# Altium footprint library Adafruit PyGamer.PCBLIB: 205 footprints (part 13 of 13)
Each footprint in its own frame and in the unit in brackets; x right, y up, seen from the top. Pads: shape width x height; smd on the part's side, far side on the other; paste and mask are expansions set on the pad; w line width, h text height; cw(c..) or ccw(c..) is an arc to the next point about the centre after c.
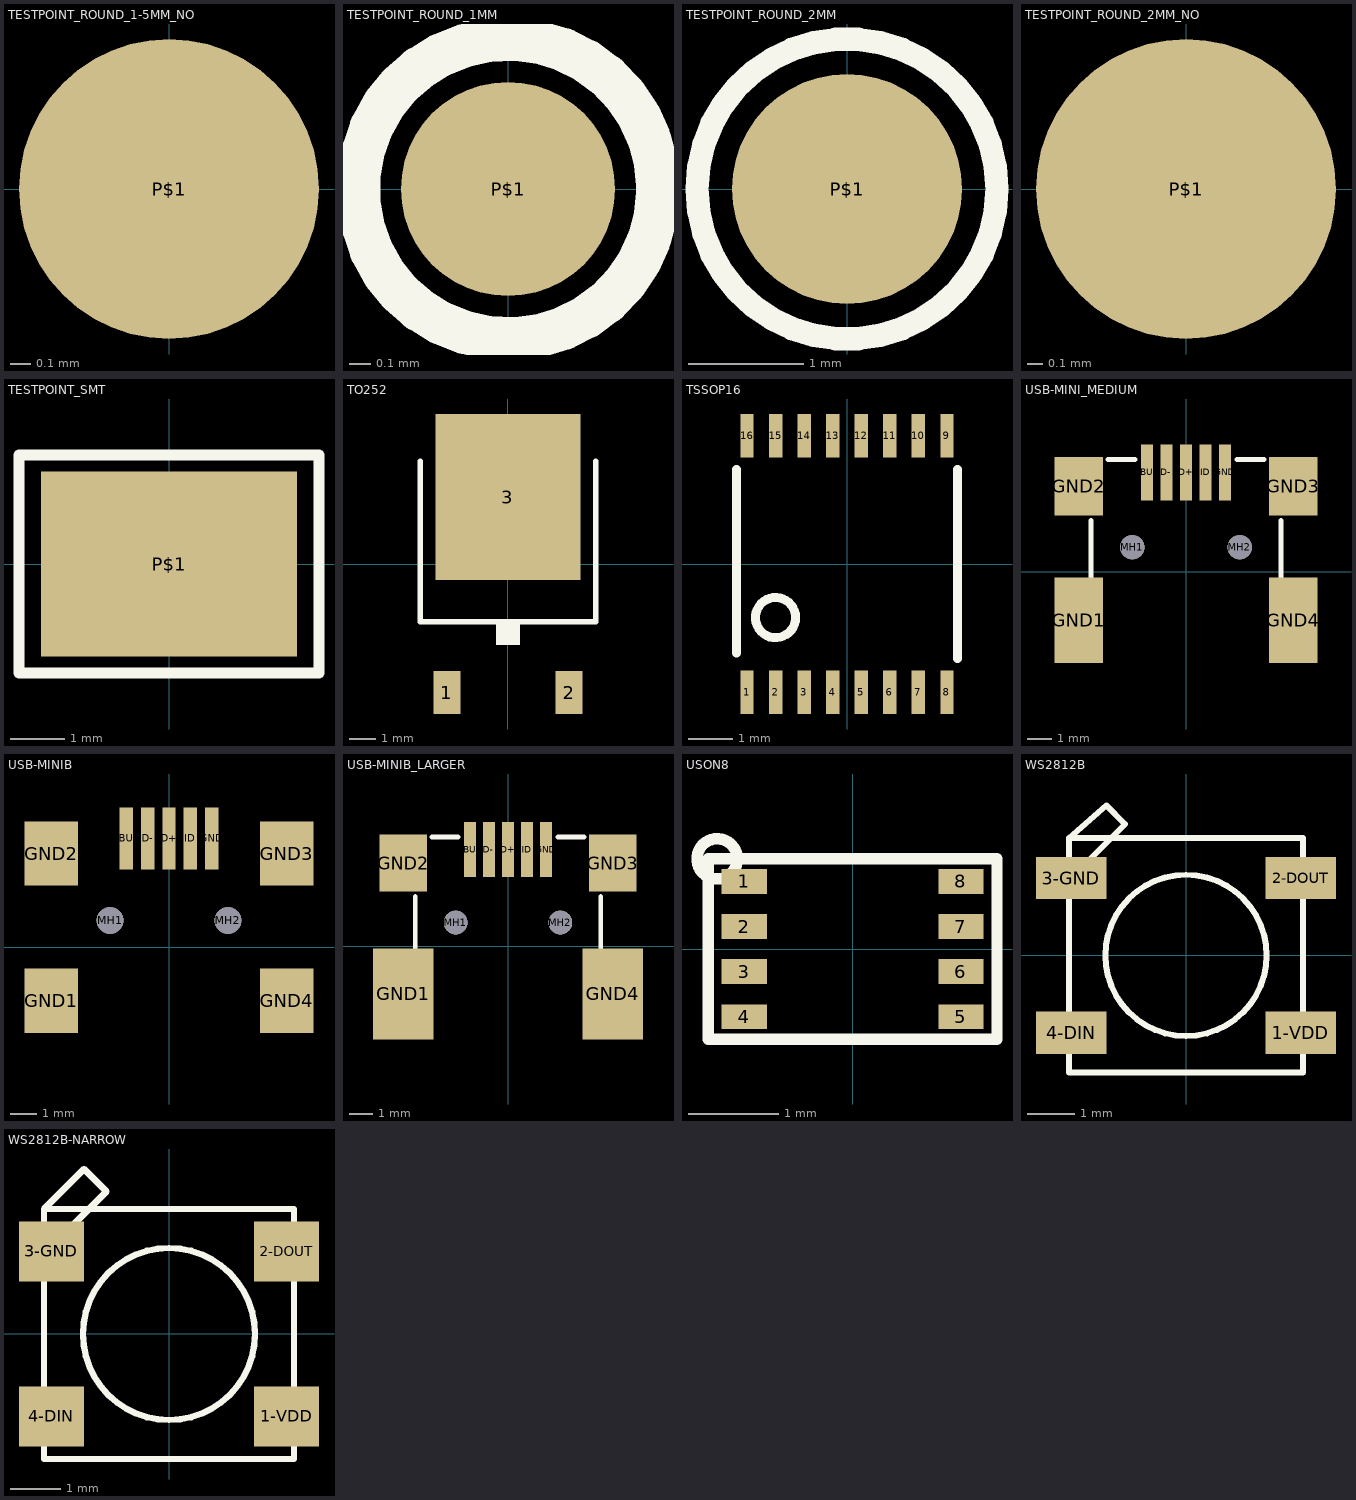
[diagram p12: the footprints below, top view; thin cyan lines are the x and y axes]

## TESTPOINT_ROUND_1-5MM_NO [mil]
pads (1):
  rrect100% 59.06x59.06 smd paste+0: P$1(0,0)

## TESTPOINT_ROUND_1MM [mm]
pads (1):
  rrect100% 1x1 smd paste+0: P$1(0,0)
Top Overlay:
  circle w0.203: c0,0 r0.7

## TESTPOINT_ROUND_2MM [mm]
pads (1):
  rrect100% 2x2 smd paste+0: P$1(0,0)
Top Overlay:
  circle w0.203: c0,0 r1.303

## TESTPOINT_ROUND_2MM_NO [mm]
pads (1):
  rrect100% 2x2 smd paste+0: P$1(0,0)

## TESTPOINT_SMT [mm]
pads (1):
  rect 4.7x3.4 smd paste+0: P$1(0,0)
Top Overlay:
  lines w0.203: -2.75,-2 2.75,-2 2.75,2 -2.75,2 -2.75,-2

## TO252 [mm]
pads (3):
  rect 1x1.6 smd: 1(-2.28,-4.8) 2(2.28,-4.8)
  rect 5.4x6.2 smd: 3(0,2.5)
Top Overlay:
  region: -0.432,-3.023 -0.432,-2.261 0.432,-2.261 0.432,-3.023
  lines w0.203: -3.277,3.835 -3.277,-2.159 3.277,-2.159 3.277,3.835
Bottom Overlay:
  region: -2.718,-5.156 -2.718,-2.261 -1.854,-2.261 -1.854,-5.156
  region: 1.854,-5.156 1.854,-2.261 2.718,-2.261 2.718,-5.156
  region: -2.565,3.937 -2.565,4.648 -2.108,5.105 2.108,5.105 2.565,4.648 2.565,3.937
  lines w0.203: -3.277,3.835 3.277,3.835 ; -2.565,3.937 -2.565,4.648 -2.108,5.105 2.108,5.105 2.565,4.648 2.565,3.937 -2.565,3.937

## TSSOP16 [mil]
pads (16):
  rect 12x39 smd: 1(-89.57,-114.87) 2(-63.98,-114.87) 3(-38.39,-114.87) 4(-12.8,-114.87) 5(12.8,-114.87) 6(38.39,-114.87) 7(63.98,-114.87) 8(89.57,-114.87) 9(89.57,114.87) 10(63.98,114.87) 11(38.39,114.87) 12(12.8,114.87) 13(-12.8,114.87) 14(-38.39,114.87) 15(-63.98,114.87) 16(-89.57,114.87)
Top Overlay:
  circle w8: c-64,-48 r18
  lines w8: -99,-79.87 -99,84.87 ; 99,-84.87 99,84.87
Bottom Overlay:
  region: -93.57,-122.87 -93.57,-89.87 -85.57,-89.87 -85.57,-122.87
  region: -67.98,-122.87 -67.98,-89.87 -59.98,-89.87 -59.98,-122.87
  region: -42.39,-122.87 -42.39,-89.87 -34.39,-89.87 -34.39,-122.87
  region: -16.8,-122.87 -16.8,-89.87 -8.8,-89.87 -8.8,-122.87
  region: 8.8,-122.87 8.8,-89.87 16.8,-89.87 16.8,-122.87
  region: 34.39,-122.87 34.39,-89.87 42.39,-89.87 42.39,-122.87
  region: 59.98,-122.87 59.98,-89.87 67.98,-89.87 67.98,-122.87
  region: 85.57,-122.87 85.57,-89.87 93.57,-89.87 93.57,-122.87
  region: 85.57,89.87 85.57,122.87 93.57,122.87 93.57,89.87
  region: 59.98,89.87 59.98,122.87 67.98,122.87 67.98,89.87
  region: 34.39,89.87 34.39,122.87 42.39,122.87 42.39,89.87
  region: 8.8,89.87 8.8,122.87 16.8,122.87 16.8,89.87
  region: -16.8,89.87 -16.8,122.87 -8.8,122.87 -8.8,89.87
  region: -42.39,89.87 -42.39,122.87 -34.39,122.87 -34.39,89.87
  region: -67.98,89.87 -67.98,122.87 -59.98,122.87 -59.98,89.87
  region: -93.57,89.87 -93.57,122.87 -85.57,122.87 -85.57,89.87
  lines w8: -99,-89.87 99,-89.87 ; -99,89.87 99,89.87

## USB-MINI_MEDIUM [mm]
pads (11):
  rect 0.5x2.308 smd: D+(0,4.064) D-(-0.8,4.064) GND(1.6,4.064) ID(0.8,4.064) VBUS(-1.6,4.064)
  rect 2x3.5 smd: GND1(-4.4,-2) GND4(4.4,-2)
  rect 2x2.4 smd: GND2(-4.4,3.5) GND3(4.4,3.5)
  round 1 hole 1 unplated: MH1(-2.2,1) MH2(2.2,1)
Top Overlay:
  lines w0.203: -3.9,-0.6 -3.9,2.1 ; -3.2,4.6 -2.1,4.6 ; 2.1,4.6 3.2,4.6 ; 3.9,-0.6 3.9,2.1
Bottom Overlay:
  lines w0.102: -5.08,-2.67 -5.08,-2.32 ccw(c-5.08,-2.02) -5.08,-1.72 -5.08,-1.32 ; -5.08,2.87 -5.08,3.22 ccw(c-5.08,3.52) -5.08,3.82 -5.08,4.22 ; -5.06,-2.679 -3.91,-2.679 ; -5.06,-1.301 -3.91,-1.301 ; -5.06,2.861 -3.91,2.861 ; -5.06,4.239 -3.91,4.239 ; -2.75,4.5 -2.75,3.75 2.75,3.75 2.75,4.5 ; -1.038,-3.506 cw(c-1.038,-3.299) -1.246,-3.298 -1.038,0.751 cw(c-0.819,0.739) -0.831,0.958 0.83,0.958 cw(c0.818,0.739) 1.038,0.751 1.246,-3.298 cw(c1.038,-3.299) 1.038,-3.506 cw(c1.038,-3.298) 0.83,-3.298 0.623,0.128 -0.623,0.128 -0.831,-3.298 cw(c-1.038,-3.299) -1.038,-3.506 ; 3.88,-2.659 5.03,-2.659 ; 3.88,-1.281 5.03,-1.281 ; 3.88,2.881 5.03,2.881 ; 3.88,4.259 5.03,4.259 ; 5.05,-2.64 5.05,-2.24 cw(c5.05,-1.94) 5.05,-1.64 5.05,-1.29 ; 5.05,2.9 5.05,3.3 cw(c5.05,3.6) 5.05,3.9 5.05,4.25 ; -3,2.75 -2.25,2.75 -2.25,3.5 -3,3.5 -3,2.75 ; -2.959,-0.547 -2.751,-3.298 ccw(c-2.457,-3.276) -2.544,-3.558 ccw(c-2.258,-2.627) -1.973,-3.558 ccw(c-2.059,-3.276) -1.765,-3.298 -1.505,-0.547 -1.713,-0.547 -1.973,-2.935 -2.492,-2.935 -2.751,-0.547 -2.959,-0.547 ; 1.505,-0.547 1.765,-3.298 ccw(c2.059,-3.276) 1.973,-3.558 ccw(c2.258,-2.627) 2.544,-3.558 ccw(c2.457,-3.276) 2.751,-3.298 2.959,-0.547 2.751,-0.547 2.492,-2.935 1.973,-2.935 1.713,-0.547 1.505,-0.547 ; 2.25,2.75 2.25,3.5 3,3.5 3,2.75 2.25,2.75
  lines w0.127: -3.9,-1.29 -3.9,2.81 ; 3.9,-1.24 3.9,2.86
  lines w0.203: -3.9,-2.7 -3.9,-4.6 3.9,-4.6 3.9,-2.7 ; -3.9,4.25 -3.9,4.6 3.9,4.6 3.9,4.3

## USB-MINIB [mm]
pads (11):
  rect 0.5x2.308 smd: D+(0,4.064) D-(-0.8,4.064) GND(1.6,4.064) ID(0.8,4.064) VBUS(-1.6,4.064)
  rect 2x2.4 smd: GND1(-4.4,-2) GND2(-4.4,3.5) GND3(4.4,3.5) GND4(4.4,-2)
  round 1 hole 1 unplated: MH1(-2.2,1) MH2(2.2,1)
Bottom Overlay:
  lines w0.102: -5.08,-2.67 -5.08,-2.32 ccw(c-5.08,-2.02) -5.08,-1.72 -5.08,-1.32 ; -5.08,2.87 -5.08,3.22 ccw(c-5.08,3.52) -5.08,3.82 -5.08,4.22 ; -5.06,-2.679 -3.91,-2.679 ; -5.06,-1.301 -3.91,-1.301 ; -5.06,2.861 -3.91,2.861 ; -5.06,4.239 -3.91,4.239 ; -2.75,4.5 -2.75,3.75 2.75,3.75 2.75,4.5 ; -1.038,-3.506 cw(c-1.038,-3.299) -1.246,-3.298 -1.038,0.751 cw(c-0.819,0.739) -0.831,0.958 0.83,0.958 cw(c0.818,0.739) 1.038,0.751 1.246,-3.298 cw(c1.038,-3.299) 1.038,-3.506 cw(c1.038,-3.298) 0.83,-3.298 0.623,0.128 -0.623,0.128 -0.831,-3.298 cw(c-1.038,-3.299) -1.038,-3.506 ; 3.88,-2.659 5.03,-2.659 ; 3.88,-1.281 5.03,-1.281 ; 3.88,2.881 5.03,2.881 ; 3.88,4.259 5.03,4.259 ; 5.05,-2.64 5.05,-2.24 cw(c5.05,-1.94) 5.05,-1.64 5.05,-1.29 ; 5.05,2.9 5.05,3.3 cw(c5.05,3.6) 5.05,3.9 5.05,4.25 ; -3,2.75 -2.25,2.75 -2.25,3.5 -3,3.5 -3,2.75 ; -2.959,-0.547 -2.751,-3.298 ccw(c-2.457,-3.276) -2.544,-3.558 ccw(c-2.258,-2.627) -1.973,-3.558 ccw(c-2.059,-3.276) -1.765,-3.298 -1.505,-0.547 -1.713,-0.547 -1.973,-2.935 -2.492,-2.935 -2.751,-0.547 -2.959,-0.547 ; 1.505,-0.547 1.765,-3.298 ccw(c2.059,-3.276) 1.973,-3.558 ccw(c2.258,-2.627) 2.544,-3.558 ccw(c2.457,-3.276) 2.751,-3.298 2.959,-0.547 2.751,-0.547 2.492,-2.935 1.973,-2.935 1.713,-0.547 1.505,-0.547 ; 2.25,2.75 2.25,3.5 3,3.5 3,2.75 2.25,2.75
  lines w0.127: -3.9,-1.29 -3.9,2.81 ; 3.9,-1.24 3.9,2.86
  lines w0.203: -3.9,-2.7 -3.9,-4.6 3.9,-4.6 3.9,-2.7 ; -3.9,4.25 -3.9,4.6 3.9,4.6 3.9,4.3

## USB-MINIB_LARGER [mm]
pads (11):
  rect 0.5x2.308 smd: D+(0,4.064) D-(-0.8,4.064) GND(1.6,4.064) ID(0.8,4.064) VBUS(-1.6,4.064)
  rect 2.54x3.81 smd: GND1(-4.4,-2) GND4(4.4,-2)
  rect 2x2.4 smd: GND2(-4.4,3.5) GND3(4.4,3.5)
  round 1 hole 1 unplated: MH1(-2.2,1) MH2(2.2,1)
Top Overlay:
  lines w0.203: -3.9,-0.6 -3.9,2.1 ; -3.2,4.6 -2.1,4.6 ; 2.1,4.6 3.2,4.6 ; 3.9,-0.6 3.9,2.1
Bottom Overlay:
  lines w0.102: -5.08,-2.67 -5.08,-2.32 ccw(c-5.08,-2.02) -5.08,-1.72 -5.08,-1.32 ; -5.08,2.87 -5.08,3.22 ccw(c-5.08,3.52) -5.08,3.82 -5.08,4.22 ; -5.06,-2.679 -3.91,-2.679 ; -5.06,-1.301 -3.91,-1.301 ; -5.06,2.861 -3.91,2.861 ; -5.06,4.239 -3.91,4.239 ; -2.75,4.5 -2.75,3.75 2.75,3.75 2.75,4.5 ; -1.038,-3.506 cw(c-1.038,-3.299) -1.246,-3.298 -1.038,0.751 cw(c-0.819,0.739) -0.831,0.958 0.83,0.958 cw(c0.818,0.739) 1.038,0.751 1.246,-3.298 cw(c1.038,-3.299) 1.038,-3.506 cw(c1.038,-3.298) 0.83,-3.298 0.623,0.128 -0.623,0.128 -0.831,-3.298 cw(c-1.038,-3.299) -1.038,-3.506 ; 3.88,-2.659 5.03,-2.659 ; 3.88,-1.281 5.03,-1.281 ; 3.88,2.881 5.03,2.881 ; 3.88,4.259 5.03,4.259 ; 5.05,-2.64 5.05,-2.24 cw(c5.05,-1.94) 5.05,-1.64 5.05,-1.29 ; 5.05,2.9 5.05,3.3 cw(c5.05,3.6) 5.05,3.9 5.05,4.25 ; -3,2.75 -2.25,2.75 -2.25,3.5 -3,3.5 -3,2.75 ; -2.959,-0.547 -2.751,-3.298 ccw(c-2.457,-3.276) -2.544,-3.558 ccw(c-2.258,-2.627) -1.973,-3.558 ccw(c-2.059,-3.276) -1.765,-3.298 -1.505,-0.547 -1.713,-0.547 -1.973,-2.935 -2.492,-2.935 -2.751,-0.547 -2.959,-0.547 ; 1.505,-0.547 1.765,-3.298 ccw(c2.059,-3.276) 1.973,-3.558 ccw(c2.258,-2.627) 2.544,-3.558 ccw(c2.457,-3.276) 2.751,-3.298 2.959,-0.547 2.751,-0.547 2.492,-2.935 1.973,-2.935 1.713,-0.547 1.505,-0.547 ; 2.25,2.75 2.25,3.5 3,3.5 3,2.75 2.25,2.75
  lines w0.127: -3.9,-1.29 -3.9,2.81 ; 3.9,-1.24 3.9,2.86
  lines w0.203: -3.9,-2.7 -3.9,-4.6 3.9,-4.6 3.9,-2.7 ; -3.9,4.25 -3.9,4.6 3.9,4.6 3.9,4.3

## USON8 [mil]
pads (8):
  rect 19.69x10.83 smd: 1(-47.24,29.53) 2(-47.24,9.84) 3(-47.24,-9.84) 4(-47.24,-29.53) 5(47.24,-29.53) 6(47.24,-9.84) 7(47.24,9.84) 8(47.24,29.53)
Top Overlay:
  circle w5: c-59.06,39.37 r8.8
  lines w5: -62.99,-39.37 62.99,-39.37 62.99,39.37 -62.99,39.37 -62.99,-39.37

## WS2812B [mm]
pads (4):
  rect 1.5x0.9 smd: 1-VDD(2.45,-1.65) 2-DOUT(2.45,1.65) 3-GND(-2.45,1.65) 4-DIN(-2.45,-1.65)
Top Overlay:
  circle w0.127: c0,0 r1.72
  lines w0.127: -2.5,1.6 -2.5,-2.5 2.5,-2.5 2.5,2.5 -1.6,2.5 ; -2.5,1.6 -2.5,2.5 ; -2.5,1.6 -1.6,2.5 ; -2.5,2.5 -1.6,2.5 ; -2.5,2.5 -1.7,3.2 -1.3,2.8 -1.6,2.5

## WS2812B-NARROW [mm]
pads (4):
  rect 1.3x1.2 smd: 1-VDD(2.35,-1.65) 2-DOUT(2.35,1.65) 3-GND(-2.35,1.65) 4-DIN(-2.35,-1.65)
Top Overlay:
  circle w0.127: c0,0 r1.72
  lines w0.127: -2.5,1.6 -2.5,-2.5 2.5,-2.5 2.5,2.5 -1.6,2.5 ; -2.5,1.6 -2.5,2.5 ; -2.5,1.6 -1.6,2.5 ; -2.5,2.5 -1.6,2.5 ; -2.5,2.5 -1.7,3.3 -1.25,2.85 -1.6,2.5